# Altium schematic symbol library DW1000.SCHLIB: 1 symbol
Pins are listed as number, name and electrical type; pins without a type are passive.

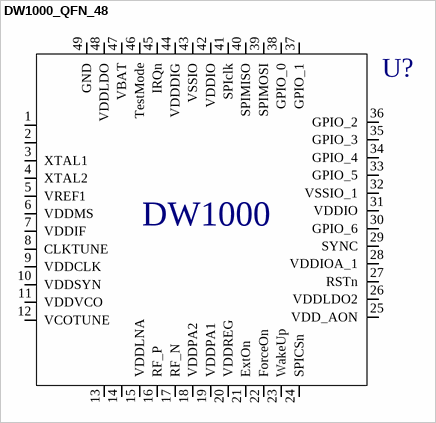
[diagram p0: symbol DW1000_QFN_48]

## DW1000_QFN_48
designator U?, comment DW1000 IC  (value not drawn)
UWB DW1000; Part Number: DW1000_QFN; Manufacturer: Decawave Ltd.; Component Code: n/a; Component Type: Standard; Cost: *; Footprint: QFN_48; ComponentLink1Description: Datasheet Link
footprint QFN-48 (Footprint not found)
pins: 1, 2, 3 XTAL1, 4 XTAL2, 5 VREF1, 6 VDDMS, 7 VDDIF, 8 CLKTUNE, 9 VDDCLK, 10 VDDSYN, 11 VDDVCO, 12 VCOTUNE, 13, 14, 15 VDDLNA, 16 RF_P, 17 RF_N, 18 VDDPA2, 19 VDDPA1, 20 VDDREG, 21 ExtOn, 22 ForceOn, 23 WakeUp, 24 SPICSn, 25 VDD_AON, 26 VDDLDO2, 27 RSTn, 28 VDDIOA_1, 29 SYNC, 30 GPIO_6, 31 VDDIO, 32 VSSIO_1, 33 GPIO_5, 34 GPIO_4, 35 GPIO_3, 36 GPIO_2, 37 GPIO_1, 38 GPIO_0, 39 SPIMOSI, 40 SPIMISO, 41 SPIclk, 42 VDDIO, 43 VSSIO, 44 VDDDIG, 45 IRQn, 46 TestMode, 47 VBAT, 48 VDDLDO, 49 GND
text: DW1000